# EAGLE library part 428427320910 (library Eagle_SWITCHES (rev18c))
10x10 mm washable THT right angled arrow type Pitch 2.54 mm WS-ROTU, <http://katalog.we-online.de/media/images/v2/Family_WS_RAT_10x10_THT_42842732091x_pf2.jpg> Details see: http://katalog.we-online.de/en/em/ROTU_10X10_WASHABLE_THT_RIGHT_ANGLED_ARROW_TYPE_PITCH_2_54 2015 (C) Würth Elektronik
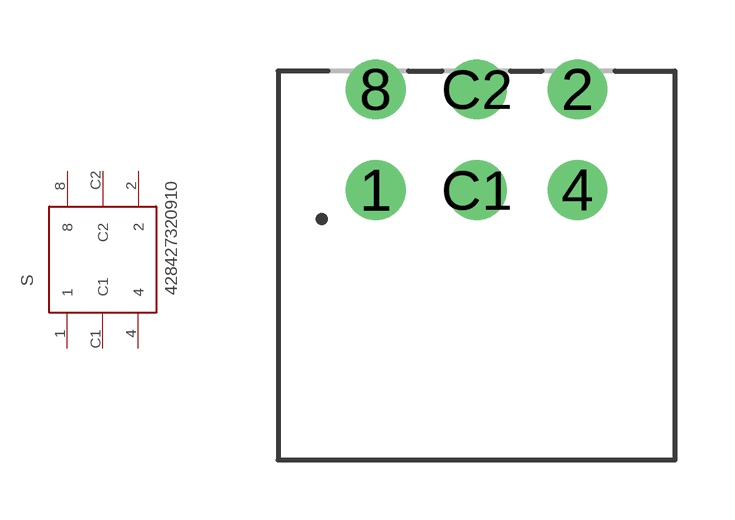
[diagram p60: symbol with the pads of 428427320910; footprint 428427320910]

Designator prefix S

## 428427320910  [428427320910]
1  1  pas
2  2  pas
4  4  pas
8  8  pas
C1  C1  pas
C2  C2  pas

## Footprint 428427320910 (pad centres in mm)
WS-RAT, 10*10mm Rotary Switch, right angle type, THT, 10 position, 2,54mm, 6 pins, round Arrow type, dark grey,real code,
drill 1: 1 -2.54,-1.27; 2 2.54,1.27; 4 2.54,-1.27; 8 -2.54,1.27; C1 0,-1.27; C2 0,1.27